# Altium schematic symbol library TXU0304PWR.SchLib: 1 symbol
Pins are listed as number, name and electrical type; pins without a type are passive.

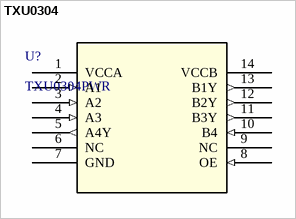
[diagram p0: symbol TXU0304]

## TXU0304
designator U?, comment TXU0304PWR
No Description Available; Mfr_Name: Texas Instruments; Copyright: Copyright (C) 2022 Ultra Librarian. All rights reserved.; Manufacturer_Part_Number: TXU0304PWR; Digi-Key_Part_Number_1: 296-TXU0304PWRTR-ND; Digi-Key_Part_Number_2: 296-TXU0304PWRCT-ND; Digi-Key_Part_Number_3: 296-TXU0304PWRDKR-ND; RefDes: RefDes; Type: DEV
footprint TXU0304
pins: 1 VCCA (power), 2 A1 (in), 3 A2 (in), 4 A3 (in), 5 A4Y (out), 6 NC, 7 GND, 8 OE (in), 9 NC, 10 B4 (in), 11 B3Y (out), 12 B2Y (out), 13 B1Y (out), 14 VCCB (power)